# Altium schematic symbol library Test_Stand_Pergam.SchLib: 63 symbols
Pins are listed as number, name and electrical type; pins without a type are passive.

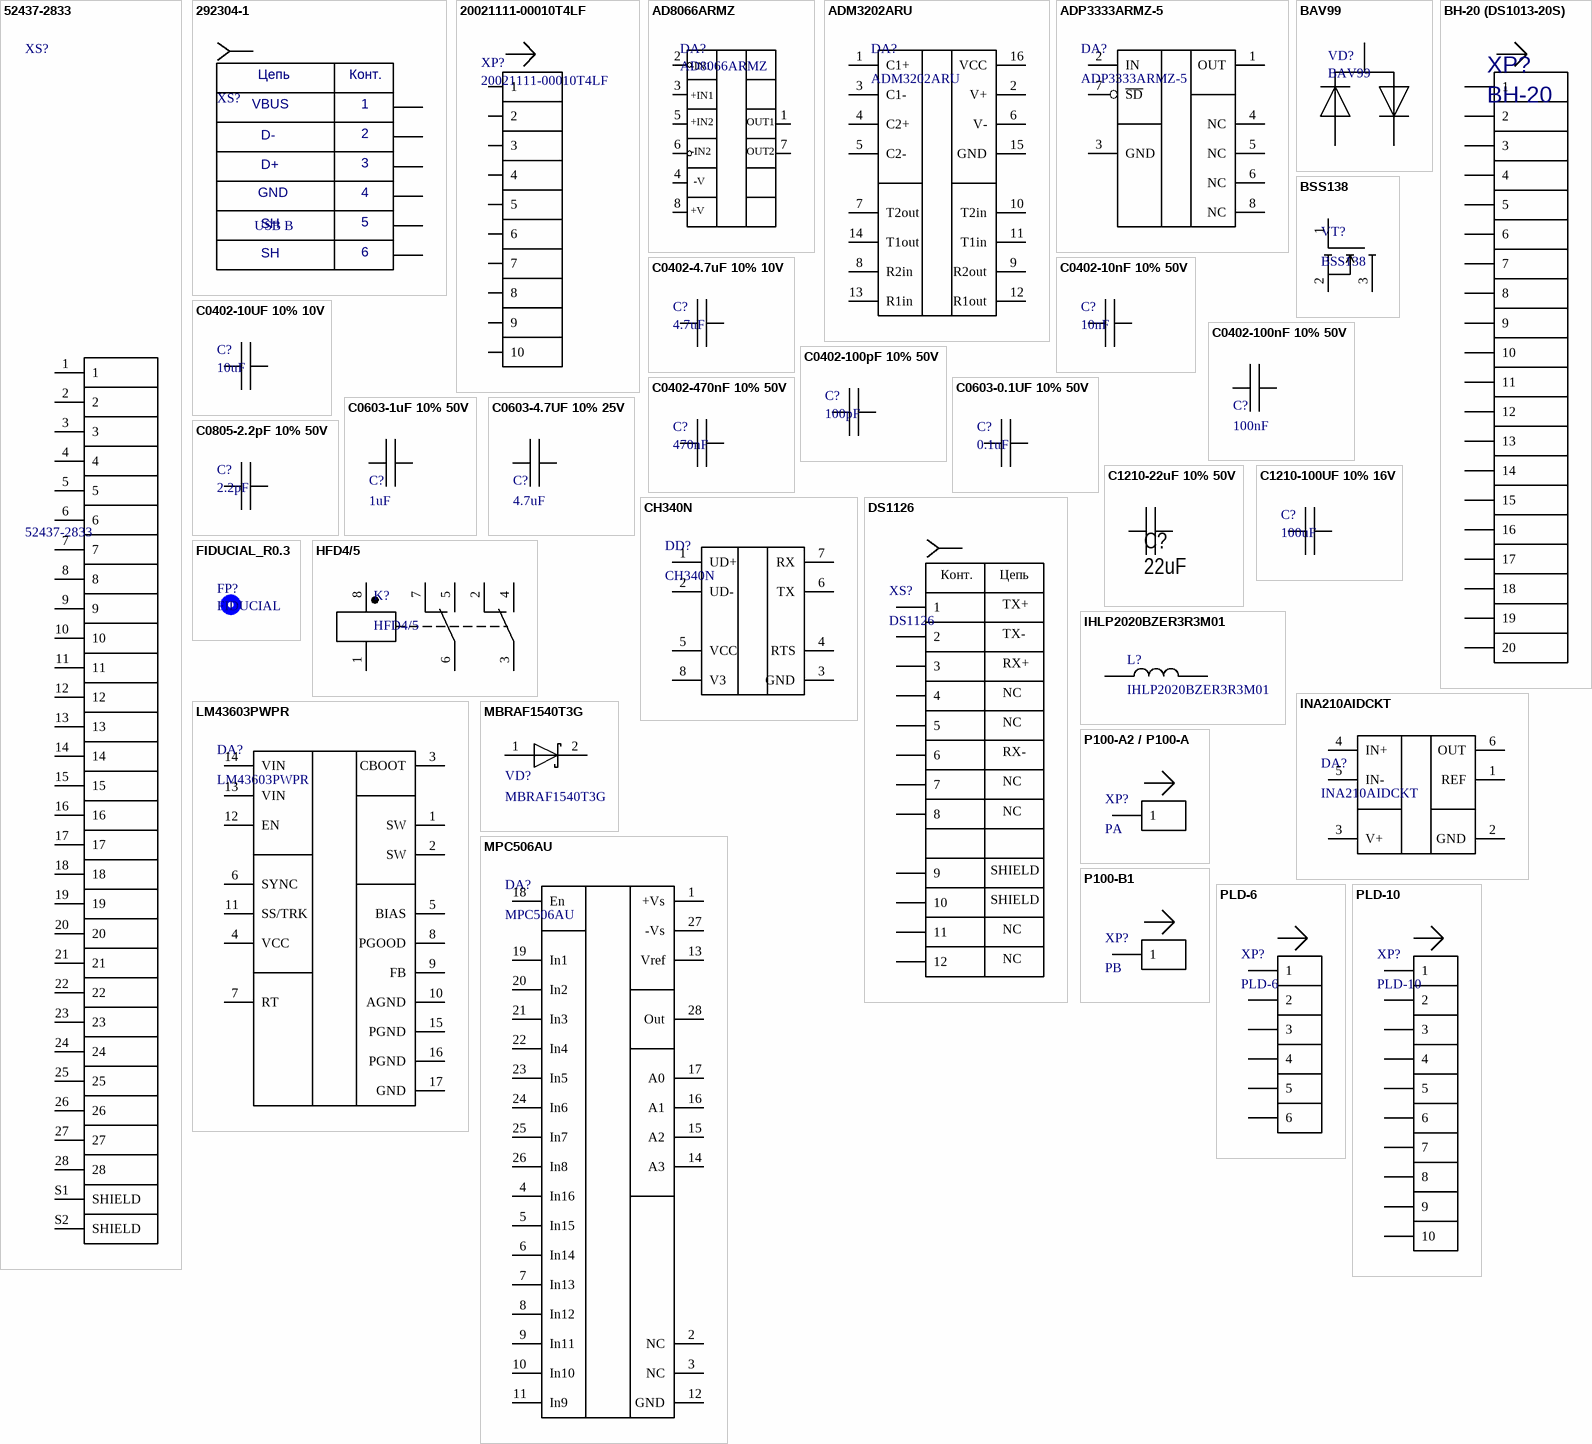
[diagram p0: symbols 52437-2833 to PLD-10]

## 52437-2833
designator XS?
28 Position FFC, FPC Connector Contacts, Bottom 0.020 _0.50mm_ Surface Mount, Right Angle; Part Number: 52437-2833 (MOLEX); Mating Part: FFCA 28pin, 0.5mm pitch, AVM 20624 80C 60V VW-1; Solder_Amount: 30; Added_by: ridel_av@teslatec.ru; Mount: MOUNT; MountType: SMD; Pkg: 52437-2833
footprint MOLEX_52437-2833 (Easy-On FFC/FPC Connector, 0.50mm Pitch, Slider Series, Right-Angle, Bottom Contact, 2.00mm Height, 28 Circuits, Tin-Silver-Bismuth Plating)
pins: 1, 2, 3, 4, 5, 6, 7, 8, 9, 10, 11, 12, 13, 14, 15, 16, 17, 18, 19, 20, 21, 22, 23, 24, 25, 26, 27, 28, S1 SHIELD, S2 SHIELD

## 292304-1
designator XS?, comment USB B
ConnUSB 2.0 Type B; Part Number: 292304-1; Pkg: 292304-1 (THM-9); Solder Amount: 9; MountType: SMD; Mount: MOUNT
footprint 292304-1
pins: 1 VBUS, 2 D-, 3 D+, 4 GND, 5 SH, 6 SH
text: Цепь; Конт.

## 20021111-00010T4LF
designator XP?
20021111-00010T4LF. pin 10; Added_by: irdolgopolowa@yandex.ru; Solder_Amount: 10; Created_at: 29/10/24; Mount: MOUNT; MountType: THM; Pkg: 20021111-00010T4LF; Part Number: 20021111-00010T4LF
footprint 20021111-00010T4LF
pins: 1, 2, 3, 4, 5, 6, 7, 8, 9, 10

## AD8066ARMZ
designator DA?
High Performance, 145 MHz FastFET Op Amps; Added_by: irdolgopolowa@yandex.ru; Solder_Amount: 8; Pkg: MSOP-8; Created_at: 29/10/24; Mount: MOUNT; MountType: SMD; Part Number: AD8066ARMZ
footprint MSOP-8 (8-Lead Mini Small Outline Package [MSOP])
pins: 1 VOUT, 2 -IN1, 3 +IN1, 4 -VS, 5 +IN2, 6 -IN2, 7 VOUT2, 8 +VS
text: OUT1; OUT2; -V; +V

## ADM3202ARU
designator DA?
Low Power, 3.3 V, RS-232 / Line Drivers/Receivers; Added_by: irdolgopolowa@yandex.ru; Pkg: TSSOP-16; Solder_Amount: 16; Created_at: 29/10/24; Mount: MOUNT; MountType: SMD; Part Number: ADM3202ARU
footprint TSSOP-16 (16-Lead Thin Shrink Small Outline Package [TSSOP])
pins: 1 C1+, 2 V+, 3 C1-, 4 C2+, 5 C2-, 6 V-, 7 T2out, 8 R2in, 9 R2out, 10 T2in, 11 T1in, 12 R1out, 13 R1in, 14 T1out, 15 GND, 16 VCC

## ADP3333ARMZ-5
designator DA?
5V 300 mA, Low Dropout, / CMOS Linear Regulator; Added_by: irdolgopolowa@yandex.ru; Pkg: 8-Lead MSOP; Solder_Amount: 8; Created_at: 29/10/24; Mount: MOUNT; MountType: SMD; Part Number: ADP3333ARMZ-5
footprint MSOP-8 (8-Lead Mini Small Outline Package [MSOP])
pins: 1 OUT, 2 IN, 3 GND, 4 NC, 5 NC, 6 NC, 7 ~{SD}, 8 NC

## BAV99
designator VD?
BAV99, UMW, 70В, 200мА; Added_by: andrew@teslatec.ru; Solder_Amount: 3; Pkg: SOT-23-3; Created_at: 29/06/2020; Mount: MOUNT; MountType: SMD; Part Number: BAV99
footprint SOT-23-3
pins: 1, 2, 3

## BH-20 (DS1013-20S)
designator XP?, comment BH-20
BH-20 (DS1013-20S) (IDC-20MS), 20pin 2.54mm; Part Number: DS1013-20SSiB1-B-0; Added_by: irdolgopolowa@yandex.ru; Solder_Amount: 20; Created_at: 30/10/24; Mount: MOUNT; MountType: SMD; Pkg: BH-20
footprint BH-20
pins: 1, 2, 3, 4, 5, 6, 7, 8, 9, 10, 11, 12, 13, 14, 15, 16, 17, 18, 19, 20

## BSS138
designator VT?
N-Channel Logic Level Enhancement Mode Field Effect Transistor; Solder_Amount: 3; Added_by: ma_lubushkin@teslatec.ru; Pkg: SOT-23; Part Number: BSS138; Mount: MOUNT; MountType: SMD; Created_at: 03/12/2019
footprint SOT-23-3
pins: 1, 2, 3

## C0402-4.7uF 10% 10V
designator C?, comment 4.7uF
C0402-4.7uF 10% 10V; Part Number: SMD CAP CER 4.7uF ±10% 10V X5R 0402; Added_by: irdolgopolowa@yandex.ru; Solder_Amount: 2; Pkg: 0402; Created_at: 29/10/24; MountType: SMD; Mount: MOUNT
footprint 0402C
pins: 1, 2
1 alternate drawing of the same symbol

## C0402-10nF 10% 50V
designator C?, comment 10nF
C0402-10nF 10% 50V; Part Number: SMD CAP CER 10nF ±10% 50V X5R 0402; Added_by: Rutel@Mail.ru; Solder_Amount: 2; Pkg: 0402; Created_at: 27/03/2020; MountType: SMD; Mount: MOUNT
footprint 0402C
pins: 1, 2
1 alternate drawing of the same symbol

## C0402-10UF 10% 10V
designator C?, comment 10uF
C0402-10UF 10% 10V; Part Number: SMD CAP CER 10UF ±10% 10V X5R 0402; Added_by: Rutel@Mail.ru; Solder_Amount: 2; Pkg: 0402; Created_at: 27/03/2020; MountType: SMD; Mount: MOUNT
footprint 0402C
pins: 1, 2
1 alternate drawing of the same symbol

## C0402-100nF 10% 50V
designator C?, comment 100nF
C0402-100nF 10% 50V; Part Number: SMD CAP CER 100nF ±10% 50V X5R 0402; Added_by: Rutel@Mail.ru; Solder_Amount: 2; Pkg: 0402; Created_at: 27/03/2020; MountType: SMD; Mount: MOUNT
footprint 0402C
pins: 1, 2
1 alternate drawing of the same symbol

## C0402-100pF 10% 50V
designator C?, comment 100pF
C0402-100pF 10% 50V; Part Number: SMD CAP CER 100pF ±10% 50V X5R 0402; Added_by: irdolgopolowa@yande.ru; Solder_Amount: 2; Pkg: 0402; Created_at: 29/10/24; MountType: SMD; Mount: MOUNT
footprint 0402C
pins: 1, 2
1 alternate drawing of the same symbol

## C0402-470nF 10% 50V
designator C?, comment 470nF
C0402-470nF 10% 50V; Part Number: SMD CAP CER 470nF ±10% 50V X5R 0402; Solder_Amount: 2; Pkg: 0402; MountType: SMD; Mount: MOUNT
footprint 0402C
pins: 1, 2
1 alternate drawing of the same symbol

## C0603-0.1UF 10% 50V
designator C?, comment 0.1uF
C0603 0.1UF 10% 50V; Part Number: SMD CAP CER 0.1UF ±10% 50V X7R 0603; Added_by: anton@teslatec.ru; Solder_Amount: 2; Pkg: 0603; Created_at: 10/01/2023; MountType: SMD; Mount: MOUNT
footprint 0603C
pins: 1, 2
1 alternate drawing of the same symbol

## C0603-1uF 10% 50V
designator C?, comment 1uF
C0603-1uF 10% 50V; Part Number: SMD CAP CER 1uF ±10% 50V X7R 0603; Added_by: grebelny_av@teslatec.ru; Solder_Amount: 2; Pkg: 0603; Created_at: 22/06/2021; MountType: SMD; Mount: MOUNT
footprint 0603C
pins: 1, 2
1 alternate drawing of the same symbol

## C0603-4.7UF 10% 25V
designator C?, comment 4.7uF
C0603-4.7UF 10% 25V; Part Number: SMD CAP CER 4.7UF ±10% 25V X5R 0603; Solder_Amount: 2; Pkg: 0603; MountType: SMD; Mount: MOUNT
footprint 0603C
pins: 1, 2
1 alternate drawing of the same symbol

## C0805-2.2pF 10% 50V
designator C?, comment 2.2pF
C0805 2.2pF 10% 50V; Part Number: SMD CAP CER 0.1UF ±10% 50V X7R 0805; Added_by: anton@teslatec.ru; Solder_Amount: 2; Pkg: 0805; Created_at: 10/01/2023; MountType: SMD; Mount: MOUNT
footprint 0805C
pins: 1, 2
1 alternate drawing of the same symbol

## C1210-22uF 10% 50V
designator C?, comment 22uF
C1210-22uF 10% 50V; Part Number: SMD CAP CER 22uF ±10% 50V X7R 1210; Solder_Amount: 2; Pkg: 1210; MountType: SMD; Mount: MOUNT
footprint 1210C
pins: 1, 2
1 alternate drawing of the same symbol

## C1210-100UF 10% 16V
designator C?, comment 100uF
C1210-100UF 10% 16V; Part Number: SMD CAP CER 100UF ±10% 16V X7R 1210; Solder_Amount: 2; Pkg: 1210; MountType: SMD; Mount: MOUNT
footprint 1210C
pins: 1, 2
1 alternate drawing of the same symbol

## CH340N
designator DD?
USB to Serial Port Chip CH340, SOP-8; Added_by: irdolgopolowa@yandex.ru; Pkg: SOIC-8; Solder_Amount: 8; Created_at: 29/10/24; Mount: MOUNT; MountType: SMD; Part Number: CH340N
footprint SOP8
pins: 1 UD+, 2 UD-, 3 GND, 4 RTS, 5 VCC, 6 TX, 7 RX, 8 V3

## DS1126
designator XS?
Ethernet PCB 8/8 RJ45; Added_by: irdolgopolowa@yandex.ru; Solder_Amount: 12; Pkg: RJ-45; Created_at: 29/10/24; Mount: MOUNT; MountType: THM; Part Number: DS1126
footprint DS1126 (RJ-45 Sheilded Connector)
pins: 1, 2, 3, 4, 5, 6, 7, 8, 9, 10, 11, 12
text: Конт.; Цепь; TX+; TX-; RX+; NC; RX-; SHIELD

## FIDUCIAL_R0.3
designator FP?, comment FIDUCIAL
Adder_by: ridel_av@teslatec.ru; Solder_Amount: -; Pkg: -; Created_at: 22/03/2020; Mount: -; MountType: -
footprint FIDICIAL POINT - R0.3

## HFD4/5
designator K?
HFD4/5 (IM03TS) (1-1462037-8), 5VDC, 2A/250VAC DPDT; Added_by: irdolgopolowa@yandex.ru; Pkg: DIP-8; Solder_Amount: 8; Created_at: 30/10/24; Mount: MOUNT; MountType: THM; Part Number: HFD4/5  (IM03TS)
footprint DIP-8
pins: 1, 2, 3, 4, 5, 6, 7, 8

## IHLP2020BZER3R3M01
designator L?
FIXED IND 3.3UH 3.3A 79 MOHM SMD; Solder_Amount: 2; Pkg: IHLP-2020BZ-01; Added_by: Rutel@teslatec.ru; Part Number: IHLP2020BZER3R3M01; MountType: SMD; Mount: MOUNT; Created_at: 14/05/2020
footprint IHLP2020CZ-01
pins: 1, 2

## INA210AIDCKT
designator DA?
26V, 14kHz, bi-directional, package SC70-6, -40 to 125; Added_by: ridel_av@teslatec.ru; Solder_Amount: 6; Created_at: 02/02/2022; Mount: MOUNT; MountType: SMD; Part Number: INA210AIDCKT; Pkg: SC70-6
footprint SC-70-6
pins: 1 REF, 2 GND, 3 V+, 4 IN+, 5 IN-, 6 OUT

## LM43603PWPR
designator DA?
LM43603PWPR 3.5-V to 36-V, 3-A Synchronous Step-Down Voltage Converter; Added_by: irdolgopolowa@yandex.ru; Pkg: MSE 16; Solder_Amount: 17; Value: LM43603QWPR; Created_at: 29/10/24; Mount: MOUNT; MountType: SMD; Part Number: LM43603PWPR
footprint TSSOP-17 (16+1-Lead Thin Shrink Small Outline Package [TSSOP])
pins: 1 SW, 2 SW, 3 CBOOT, 4 VCC, 5 BIAS, 6 SYNC, 7 RT, 8 PGOOD, 9 FB, 10 AGND, 11 SS/TRK, 12 EN, 13 VIN, 14 VIN, 15 PGND, 16 PGND, 17 GND

## MBRAF1540T3G
designator VD?
1.5 A, 40 V Schottky Rectifier; Added_by: irdolgopolowa@yandex.ru; Solder_Amount: 2; Pkg: SMA-FL; Created_at: 29.10.24; Mount: MOUNT; MountType: SMD; Part Number: MBRAF1540T3G
footprint SMA-FL
pins: 1, 2

## MPC506AU
designator DA?
MPC506AU, Ch: 16, SO28; Added_by: irdolgopolowa@yandex.ru; Pkg: SOIC-28; Solder_Amount: 28; Mount: MOUNT; MountType: SMD/SMT; Part Number: MPC506A; Created_at: 29/10/2024
footprint SOIC-28
pins: 1 +Vs, 2 NC, 3 NC, 4 In16, 5 In15, 6 In14, 7 In13, 8 In12, 9 In11, 10 In10, 11 In9, 12 GND, 13 Vref, 14 A3, 15 A2, 16 A1, 17 A0, 18 En, 19 In1, 20 In2, 21 In3, 22 In4, 23 In5, 24 In6, 25 In7, 26 In8, 27 -Vs, 28 Out

## P100-A2 / P100-A
designator XP?, comment PA
Pogo pin, 33.35x1.36; Part Number: P100-A2 / P100-A; Added_by: irdolgopolowa@yandex.ru; Created_at: 29/10/24; Mount: MOUNT; MountType: THM; Pkg: *
footprint POGO PIN P100-A2/B1
pins: 1

## P100-B1
designator XP?, comment PB
Pogo pin, 33.35x1.36; Part Number: P100-B1; Added_by: irdolgopolowa@yandex.ru; Created_at: 29/10/24; Mount: MOUNT; MountType: THM; Pkg: *
footprint POGO PIN P100-A2/B1
pins: 1

## PLD-6
designator XP?
Pin Header Pitch 2.54mm; Part Number: PLD-6 (DS1021-2x3); Pkg: PLD-6 2.54mm; Solder_Amount: 6; Added_by: ponomarev_ke@teslatec.ru; MountType: THM; Mount: MOUNT; Mating Part: *; Mating Terminals: *; Cable/Wire: *; Created_at: 21/05/2019
footprint PLD-6
pins: 1, 2, 3, 4, 5, 6

## PLD-10
designator XP?
Pin Header Pitch 2.54mm; Part Number: PLD-10 (DS1021-2x5); Pkg: PLD-10 2.54mm; Solder_Amount: 10; Added_by: ponomarev_ke@teslatec.ru; MountType: THM; Mount: MOUNT; Mating Part: *; Mating Terminals: *; Cable/Wire: *; Created_at: 21/05/2019
footprint PLD-10
pins: 1, 2, 3, 4, 5, 6, 7, 8, 9, 10

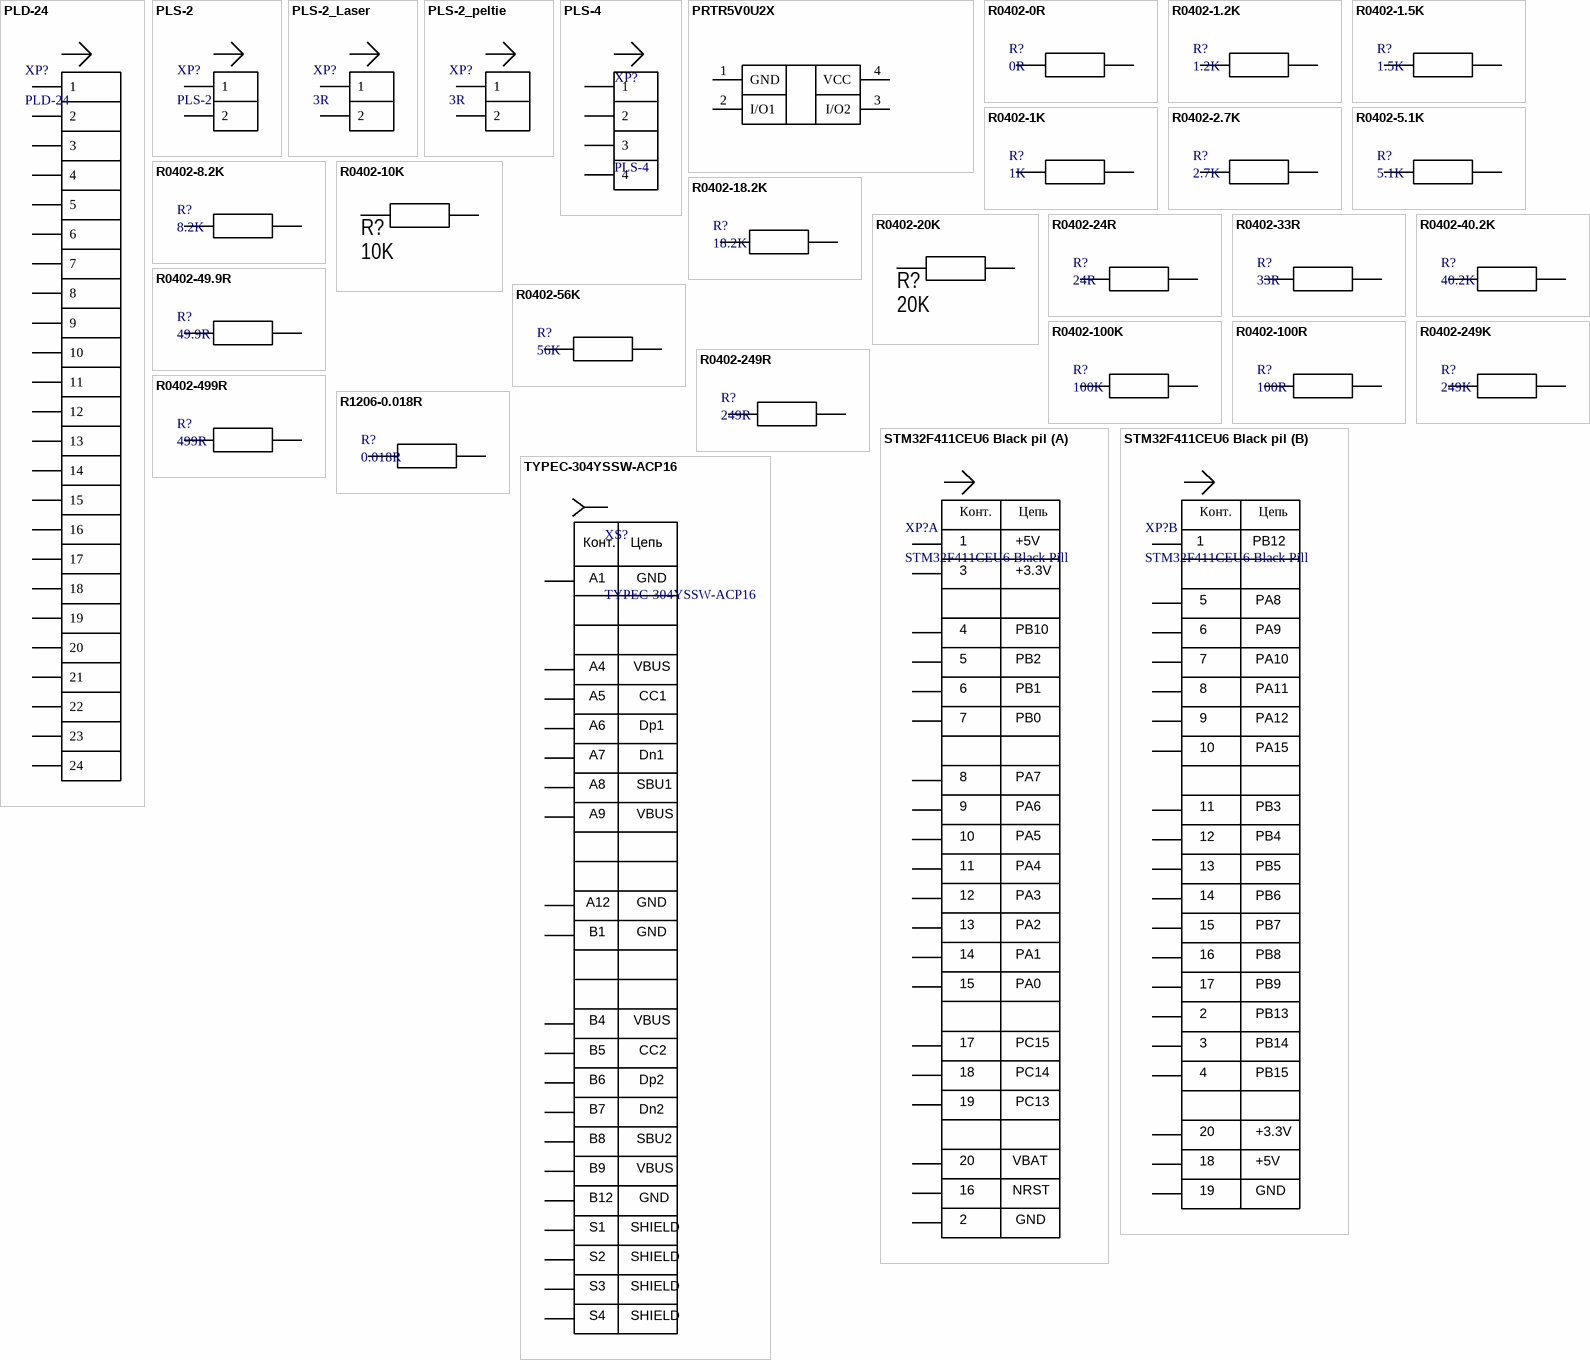
[diagram p1: symbols PLD-24 to TYPEC-304YSSW-ACP16]

## PLD-24
designator XP?
Pin Header Pitch 2.54mm; Pkg: PLD-24 2.54mm; Solder_Amount: 24; Added_by: andrew@teslatec.ru; MountType: THM; Mount: MOUNT; Part Number: PLD-24; Mating Part: -; Mating Terminals: -; Cable/Wire: -; Created_at: 1/09/2020
footprint PLD-24
pins: 1, 2, 3, 4, 5, 6, 7, 8, 9, 10, 11, 12, 13, 14, 15, 16, 17, 18, 19, 20, 21, 22, 23, 24

## PLS-2
designator XP?
HEADER 2.54mm; Added_by: irdolgopolowa@yandex.ru; Solder_Amount: 2; Created_at: 29/10/24; Mount: MOUNT; MountType: THM; Part Number: PLS-2; Pkg: PLS-2
footprint PLS-2
pins: 1, 2

## PLS-2_Laser
designator XP?, comment 3R
KNP300JB-52-3R; Part Number: PLS-2; Added_by: irdolgopolowa@yandex.ru; Solder_Amount: 2; Created_at: 29/10/24; Mount: MOUNT; MountType: THM; Pkg: PLS-2; Mating Part: KNP300JB-52-3R
footprint PLS-2
pins: 1, 2

## PLS-2_peltie
designator XP?, comment 3R
SQP10AJB-3R; Part Number: PLS-2; Added_by: irdolgopolowa@yandex.ru; Solder_Amount: 2; Created_at: 29/10/24; Mount: MOUNT; MountType: THM; Pkg: PLS-2; Mating Part: SQP10AJB-3R
footprint PLS-2
pins: 1, 2

## PLS-4
designator XP?
HEADER 2.54mm; Mating Part: BLS-4; Added_by: irdolgopolowa@yandex.ru; Solder_Amount: 4; Mating Terminals: BL-T (DS-1071); Cable/Wire: МГТФ 0,35 кв.мм ГОСТ; Created_at: 29/10/24; Mount: MOUNT; MountType: THM; Part Number: PLS-4; Pkg: PLS-4
footprint PLS-4
pins: 1, 2, 3, 4

## PRTR5V0U2X
designator VD?
PRTR5V0U2X, ESD(Rail-to-Rail), 1pF,  5V; Added_by: irdolgopolowa@yandex.ru; Pkg: SOT-143; Solder_Amount: 4; Created_at: 29/10/24; Mount: MOUNT; MountType: SMD; Part Number: PRTR5V0U2X
footprint SOT143B
pins: 1 GND, 2 I/O1, 3 I/O2, 4 VCC

## R0402-0R
designator R?, comment 0R
Resistor SMD 0R 1% 0402; Part Number: SMD RES 0R 0402; Added_by: irdolgopolowa@yandex.ru; Solder_Amount: 2; Pkg: 0402; Created_at: 29/10/24; MountType: SMD; Mount: MOUNT
footprint R0402 (Resistor 0402)
pins: 1, 2

## R0402-1.2K
designator R?, comment 1.2K
Resistor SMD 1.2K 1% 0402; Part Number: SMD RES 1.2 KOHM 1% ±100ppm/°C 0402; Added_by: Rutel@teslatec.ru; Solder_Amount: 2; Pkg: 0402; Created_at: 21/04/2020; MountType: SMD; Mount: MOUNT
footprint R0402 (Resistor 0402)
pins: 1, 2

## R0402-1.5K
designator R?, comment 1.5K
Resistor SMD 1.5K 1% 0402; Part Number: SMD RES 1.5 KOHM 1% ±100ppm/°C 0402; Added_by: Rutel@teslatec.ru; Solder_Amount: 2; Pkg: 0402; Created_at: 21/04/2020; MountType: SMD; Mount: MOUNT
footprint R0402 (Resistor 0402)
pins: 1, 2

## R0402-1K
designator R?, comment 1K
Resistor SMD 1K 1% 0402; Part Number: SMD RES 1 KOHM 1% ±100ppm/°C 0402; Added_by: irdolgopolowa@yandex.ru; Solder_Amount: 2; Pkg: 0402; Created_at: 29/10/24; MountType: SMD; Mount: MOUNT
footprint R0402 (Resistor 0402)
pins: 1, 2

## R0402-2.7K
designator R?, comment 2.7K
Resistor SMD 2.7K 1% 0402; Part Number: SMD RES 2.7 KOHM 1% ±100ppm/°C 0402; Added_by: Rutel@teslatec.ru; Solder_Amount: 2; Pkg: 0402; Created_at: 21/04/2020; MountType: SMD; Mount: MOUNT
footprint R0402 (Resistor 0402)
pins: 1, 2

## R0402-5.1K
designator R?, comment 5.1K
Resistor SMD 5.1K 1% 0402; Part Number: SMD RES 5.1 KOHM 1% ±100ppm/°C 0402; Added_by: Rutel@teslatec.ru; Solder_Amount: 2; Pkg: 0402; Created_at: 21/04/2020; MountType: SMD; Mount: MOUNT
footprint R0402 (Resistor 0402)
pins: 1, 2

## R0402-8.2K
designator R?, comment 8.2K
Resistor SMD 8.2K 1% 0402; Part Number: SMD RES 8.2 KOHM 1% ±100ppm/°C 0402; Added_by: Rutel@teslatec.ru; Solder_Amount: 2; Pkg: 0402; Created_at: 21/04/2020; MountType: SMD; Mount: MOUNT
footprint R0402 (Resistor 0402)
pins: 1, 2

## R0402-10K
designator R?, comment 10K
Resistor SMD 10K 1% 0402; Part Number: SMD RES 10 KOHM 1% ±100ppm/°C 0402; Added_by: Rutel@teslatec.ru; Solder_Amount: 2; Pkg: 0402; Created_at: 21/04/2020; MountType: SMD; Mount: MOUNT
footprint R0402 (Resistor 0402)
pins: 1, 2

## R0402-18.2K
designator R?, comment 18.2K
Resistor SMD 18.2K 1% 0402; Part Number: SMD RES 18.2 KOHM 1% ±100ppm/°C 0402; Added_by: Rutel@teslatec.ru; Solder_Amount: 2; Pkg: 0402; Created_at: 21/04/2020; MountType: SMD; Mount: MOUNT
footprint R0402 (Resistor 0402)
pins: 1, 2

## R0402-20K
designator R?, comment 20K
Resistor SMD 20K 1% 0402; Part Number: SMD RES 20 KOHM 1% ±100ppm/°C 0402; Added_by: Rutel@teslatec.ru; Solder_Amount: 2; Pkg: 0402; Created_at: 21/04/2020; MountType: SMD; Mount: MOUNT
footprint R0402 (Resistor 0402)
pins: 1, 2

## R0402-24R
designator R?, comment 24R
Resistor SMD 24R 1% 0402; Part Number: SMD RES 24R OHM 1% ±100ppm/°C 0402; Added_by: Rutel@teslatec.ru; Solder_Amount: 2; Pkg: 0402; Created_at: 21/04/2020; MountType: SMD; Mount: MOUNT
pins: 1, 2

## R0402-33R
designator R?, comment 33R
Resistor SMD 33R 1% 0402; Part Number: SMD RES 33R OHM 1% ±100ppm/°C 0402; Added_by: Rutel@teslatec.ru; Solder_Amount: 2; Pkg: 0402; Created_at: 21/04/2020; MountType: SMD; Mount: MOUNT
footprint R0402 (Resistor 0402)
pins: 1, 2

## R0402-40.2K
designator R?, comment 40.2K
Resistor SMD 40.2K 1% 0402; Part Number: SMD RES 40.2K KOHM 1% ±100ppm/°C 0402; Added_by: ridel_av@teslatec.ru; Solder_Amount: 2; Pkg: 0402; Created_at: 15/12/2021; MountType: SMD; Mount: MOUNT
footprint R0402 (Resistor 0402)
pins: 1, 2

## R0402-49.9R
designator R?, comment 49.9R
Resistor SMD 49.9R 1% 0402; Part Number: SMD RES 49.9 OHM 1% ±100ppm/°C 0402; Added_by: Rutel@teslatec.ru; Solder_Amount: 2; Pkg: 0402; Created_at: 21/04/2020; MountType: SMD; Mount: MOUNT
footprint R0402 (Resistor 0402)
pins: 1, 2

## R0402-56K
designator R?, comment 56K
Resistor SMD 56K 1% 0402; Part Number: SMD RES 56K KOHM 1% ±100ppm/°C 0402; Added_by: ridel_av@teslatec.ru; Solder_Amount: 2; Pkg: 0402; Created_at: 15/12/2021; MountType: SMD; Mount: MOUNT
footprint R0402 (Resistor 0402)
pins: 1, 2

## R0402-100K
designator R?, comment 100K
Resistor SMD 100K 1% 0402; Part Number: SMD RES 100 KOHM 1% ±100ppm/°C 0402; Added_by: Rutel@teslatec.ru; Solder_Amount: 2; Pkg: 0402; Created_at: 21/04/2020; MountType: SMD; Mount: MOUNT
footprint R0402 (Resistor 0402)
pins: 1, 2

## R0402-100R
designator R?, comment 100R
Resistor SMD 100R 1% 0402; Part Number: SMD RES 100 OHM 1% ±100ppm/°C 0402; Added_by: irdolgopolowa@yandex.ru; Solder_Amount: 2; Pkg: 0402; Created_at: 29/10/24; MountType: SMD; Mount: MOUNT
footprint R0402 (Resistor 0402)
pins: 1, 2

## R0402-249K
designator R?, comment 249K
Resistor SMD 249K 1% 0402; Part Number: SMD RES 249 KOHM 1% ±100ppm/°C 0402; Solder_Amount: 2; Pkg: 0402; MountType: SMD; Mount: MOUNT
footprint R0402 (Resistor 0402)
pins: 1, 2

## R0402-249R
designator R?, comment 249R
Resistor SMD 249R 1% 0402; Part Number: SMD RES 249 OHM 1% ±100ppm/°C 0402; Added_by: ridel_av@teslatec.ru; Solder_Amount: 2; Pkg: 0402; Created_at: 15/12/2021; MountType: SMD; Mount: MOUNT
footprint R0402 (Resistor 0402)
pins: 1, 2

## R0402-499R
designator R?, comment 499R
Resistor SMD 499R 1% 0402; Part Number: SMD RES 499 OHM 1% ±100ppm/°C 0402; Added_by: Rutel@teslatec.ru; Solder_Amount: 2; Pkg: 0402; Created_at: 21/04/2020; MountType: SMD; Mount: MOUNT
footprint R0402 (Resistor 0402)
pins: 1, 2

## R1206-0.018R
designator R?, comment 0.018R
Resistor SMD 0.018R 1% 1206; Part Number: TL2BR018F SMD RES 0.018 OHM 1% ±75ppm/°C 1206; Added_by: irdolgopolowa@yandex.ru; Solder_Amount: 2; Pkg: 1206; Created_at: 07/11/2024; MountType: SMD; Mount: MOUNT
footprint R1206
pins: 1, 2

## STM32F411CEU6 Black pil
designator XP?, comment STM32F411CEU6 Black Pill
STM32F411CEU6 Black pil; Mating Part: 2*DS1021-1*20SF11-B; Added_by: irdolgopolowa@yandex.ru; Solder_Amount: 20; Created_at: 29/10/24; Mount: MOUNT; MountType: THM; Pkg: Black pil; Part Number: STM32F411CEU6 Black Pill
footprint Black pill STM32F411CEU6
part A pins: 1 +5V, 2 GND, 3 +3.3V, 4 PB10, 5 PB2, 6 PB1, 7 PB0, 8 PA7, 9 PA6, 10 PA5, 11 PA4, 12 PA3, 13 PA2, 14 PA1, 15 PA0, 16 NRST, 17 PC15, 18 PC14, 19 PC13, 20 VBAT
part B pins: 21 PB12, 22 PB13, 23 PB14, 24 PB15, 25 PA8, 26 PA9, 27 PA10, 28 PA11, 29 PA12, 30 PA15, 31 PB3, 32 PB4, 33 PB5, 34 PB6, 35 PB7, 36 PB8, 37 PB9, 38 +5V, 39 GND, 40 +3.3V
part A text: Конт.; Цепь
part B text: Конт.; Цепь

## TYPEC-304YSSW-ACP16
designator XS?
USB Type-C, 16 Pin; Solder_Amount: 16; Added_by: ridel_av@teslatec.ru; MountType: SMD; Mount: MOUNT; Pkg: TYPEC-304YSSW-ACP16; Part Number: TYPEC-304YSSW-ACP16; Created_at: 13/12/2021
footprint USB-C 16P
pins: A1/B12 GND, A1/B12 GND, A4/B9 VBUS, A4/B9 VBUS, A5 CC1, A6 Dp1, A7 Dn1, A8 SBU1, A9/B4 VBUS, A9/B4 VBUS, A12/B1 GND, A12/B1 GND, B5 CC2, B6 Dp2, B7 Dn2, B8 SBU2, S1 SHIELD, S2 SHIELD, S3 SHIELD, S4 SHIELD
text: Конт.; Цепь; A1; A4; A9; A12; B1; B4; B9; B12